# EAGLE library part HEADER13X2_AB (library SmallRoomLabs)
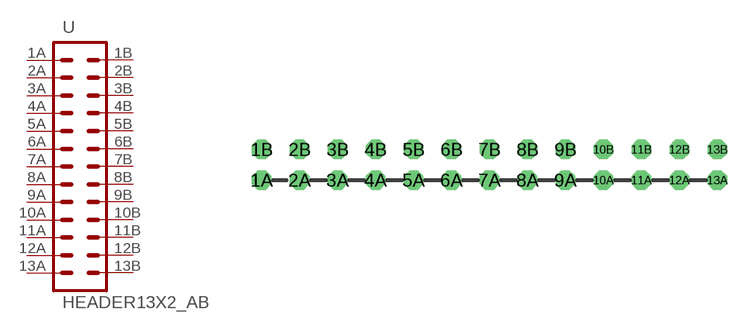
[diagram p3: symbol with the pads of HEADER2X13_TIGHT; footprint HEADER2X13_TIGHT]

Designator prefix -

## HEADER13X2_AB  [HEADER2X13_TIGHT]
1A  1A  pas
1B  1B  pas
2A  2A  pas
2B  2B  pas
3A  3A  pas
3B  3B  pas
4A  4A  pas
4B  4B  pas
5A  5A  pas
5B  5B  pas
6A  6A  pas
6B  6B  pas
7A  7A  pas
7B  7B  pas
8A  8A  pas
8B  8B  pas
9A  9A  pas
9B  9B  pas
10A  10A  pas
10B  10B  pas
11A  11A  pas
11B  11B  pas
12A  12A  pas
12B  12B  pas
13A  13A  pas
13B  13B  pas

## Footprint HEADER2X13_TIGHT (pad centres in mm)
drill 0.8 octagon: 1A -15.24,-1.041; 1B -15.24,1.016; 2A -12.7,-1.041; 2B -12.7,1.016; 3A -10.16,-1.041; 3B -10.16,1.016; 4A -7.62,-1.041; 4B -7.62,1.016; 5A -5.08,-1.041; 5B -5.08,1.016; 6A -2.54,-1.041; 6B -2.54,1.016; 7A 0,-1.041; 7B 0,1.016; 8A 2.54,-1.041; 8B 2.54,1.016; 9A 5.08,-1.041; 9B 5.08,1.016; 10A 7.62,-1.041; 10B 7.62,1.016; 11A 10.16,-1.041; 11B 10.16,1.016; 12A 12.7,-1.041; 12B 12.7,1.016; 13A 15.24,-1.041; 13B 15.24,1.016